# Altium integrated library Linear Technology Power Management Switching Regulator LTC1174-LTC3901.IntLib: 2647 symbols (part 47 of 364)
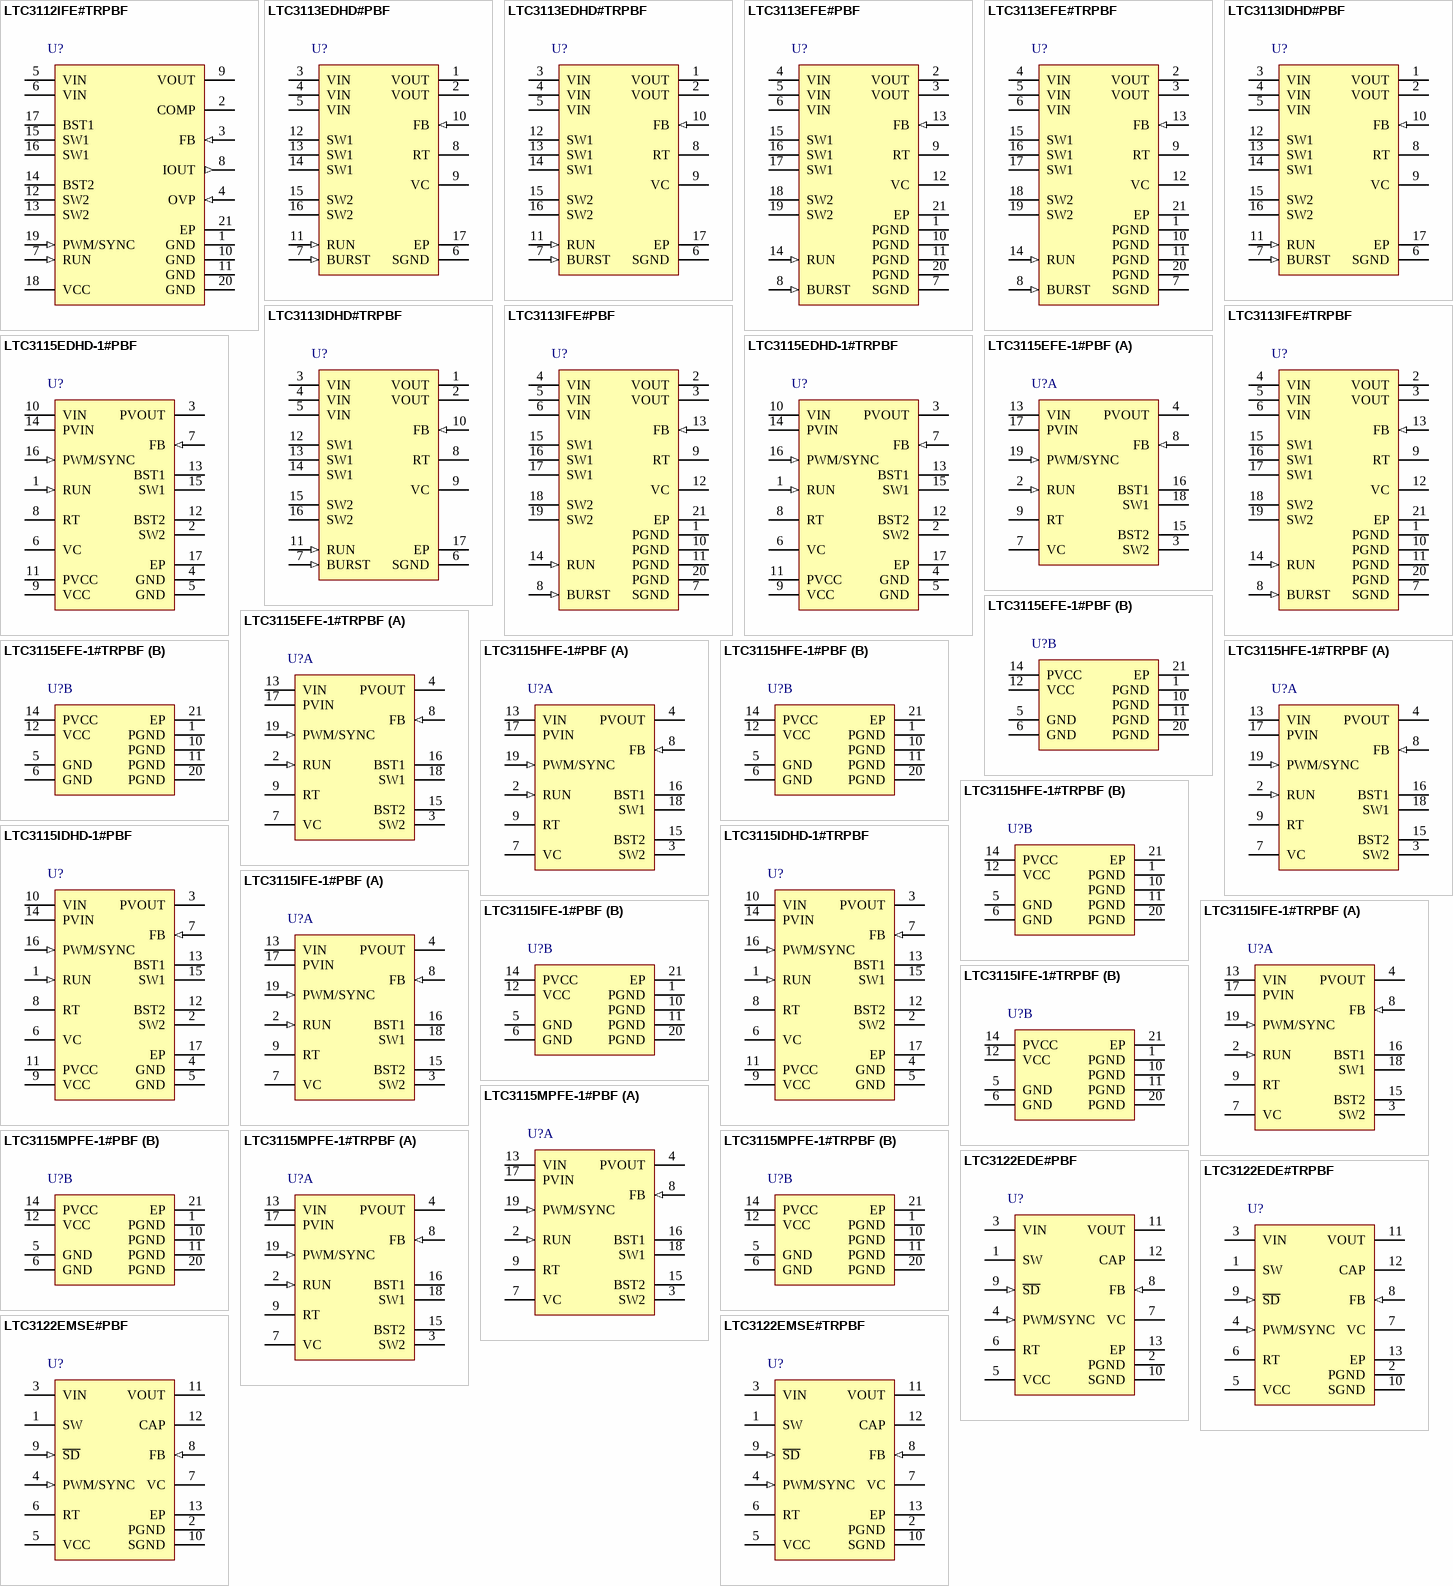
[diagram p239: symbols LTC3112IFE#TRPBF to LTC3122EMSE#TRPBF]

## LTC3115EFE-1#PBF
designator U?
2 A Synchronous Buck-Boost DC/DC Converter, 20-pin SOP (FE-20-EPV-CA), -40 to 125 degC, Pb-Free; Manufacturer: Linear Technology; PartNumber: LTC3115EFE-1#PBF; Frequency Sync Range: 100kHz - 2MHz; Number of Outputs: 1; DatasheetVersion: Rev. A; PackageVersion: Rev. I, 05/2011; PackageReference: FE-20; PackageDescription: 20-Pin Plastic TSSOP, Body 6.5 x 4.4 mm, Pitch 0.65 mm; Supplier 1: Digi-Key; Supplier Part Number 1: LTC3115EFE-1#PBF-ND; Supplier 2: Farnell; Supplier Part Number 2: 2097959; Supplier 3: Newark; Supplier Part Number 3: 92T3081; RoHS: TRUE; Mounting Technology: Surface Mount; ComponentLink1Description: Manufacturer URL; ComponentLink1URL: http://www.linear.com/; ComponentLink2Description: Datasheet; ComponentLink2URL: http://cds.linear.com/docs/en/datasheet/31151fa.pdf; ComponentLink3Description: Package Specification; ComponentLink3URL: http://cds.linear.com/docs/en/packaging/05081663__JFE20(CA).pdf
footprint LT-FE-20-EPV-CA_N (SOP, 20-Leads, Body 6.6x4.5mm, Pitch 0.65mm, Thermal Pad 4.95x2.74mm, IPC Medium Density)
footprint LT-FE-20-EPV-CA_L (SOP, 20-Leads, Body 6.6x4.5mm, Pitch 0.65mm, Thermal Pad 4.95x2.74mm, IPC High Density)
footprint LT-FE-20-EPV-CA_M (SOP, 20-Leads, Body 6.6x4.5mm, Pitch 0.65mm, Thermal Pad 4.95x2.74mm, IPC Low Density)
part A pins: 2 RUN (in) "Input to Enable and Disable the IC and Set Custom Input UVLO Thresholds. The RUN pin can be driven by an external logic signal to enable and disable the IC. In addition, the voltage on this pin can be set by a resistor (See Datasheet)", 3 SW2 "Buck-Boost Converter Power Switch Pin. This pin should be connected to one side of the buckboost inductor.", 4 PVOUT (power) "Buck-Boost Converter Power Output. This pin should be connected to a low ESR capacitor with a value of at least 10uF. The capacitor should be placed as close to the IC as possible and should have a short return path to (See Datasheet)", 7 VC "Error Amplifier Output. A frequency compensation network must be connected between this pin and FB to stabilize the voltage control loop.", 8 FB (in) "Feedback Voltage Input. A resistor divider connected to this pin sets the output voltage for the buckboost converter. The nominal FB voltage is 1000mV. Care should be taken in the routing of connections to this pin in order (See Datasheet)", 9 RT "Oscillator Frequency Programming Pin. A resistor placed between this pin and ground sets the switching frequency of the buck-boost converter.", 13 VIN (power) "Power Supply Connection for Internal Circuitry and the VCC Regulator. This pin provides power to the internal VCC regulator and is the input voltage sense connection for the VIN divider. A 0.1uF bypass capacitor should be (See Datasheet)", 15 BST2 "Flying Capacitor Pin for SW2. This pin must be connected to SW2 through a 0.1uF capacitor. This pin is used to generate the gate drive rail for power switch D.", 16 BST1 "Flying Capacitor Pin for SW1. This pin must be connected to SW1 through a 0.1uF capacitor. This pin is used to generate the gate drive rail for power switch A.", 17 PVIN (power) "Power Input for the Buck-Boost Converter. A 4.7uF or larger bypass capacitor should be connected between this pin and ground. The bypass capacitor should be located as close to the IC as possible and should via directly down (See Datasheet)", 18 SW1 "Buck-Boost Converter Power Switch Pin. This pin should be connected to one side of the buckboost inductor", 19 PWM/SYNC (in) "Burst Mode/PWM Mode Control Pin and Synchronization Input. Forcing this pin high causes the IC to operate in fixed frequency PWM mode at all loads using the internal oscillator at the frequency set by the RT Pin. Forcing (See Datasheet)"
part B pins: 1 PGND (power) "Power Ground Connections. These pins should be connected to the power ground in the application. The exposed pad is the power ground connection. It must be soldered to the PCB and electrically connected to ground through the (See Datasheet)", 5 GND (power) "Signal Ground. These pins are the ground connections for the control circuitry of the IC and must be tied to ground in the application.", 6 GND (power) "Signal Ground. These pins are the ground connections for the control circuitry of the IC and must be tied to ground in the application.", 10 PGND (power) "Power Ground Connections. These pins should be connected to the power ground in the application. The exposed pad is the power ground connection. It must be soldered to the PCB and electrically connected to ground through the (See Datasheet)", 11 PGND (power) "Power Ground Connections. These pins should be connected to the power ground in the application. The exposed pad is the power ground connection. It must be soldered to the PCB and electrically connected to ground through the (See Datasheet)", 12 VCC (power) "Low Voltage Supply Input for IC Control Circuitry. This pin powers internal IC control circuitry and must be connected to the PVCC pin in the application. A 4.7uF or larger bypass capacitor should be connected between this (See Datasheet)", 14 PVCC (power) "Internal VCC Regulator Output. This pin is the output pin of the internal linear regulator that generates the VCC rail from VIN. The PVCC pin is also the supply connection for the power switch gate drivers. If the trace (See Datasheet)", 20 PGND (power) "Power Ground Connections. These pins should be connected to the power ground in the application. The exposed pad is the power ground connection. It must be soldered to the PCB and electrically connected to ground through the (See Datasheet)", 21 EP (power) "Power Ground Connections. These pins should be connected to the power ground in the application. The exposed pad is the power ground connection. It must be soldered to the PCB and electrically connected to ground through the (See Datasheet)"